# Altium schematic symbol library 11-pin_Header_Sch.SchLib: 1 symbol
Pins are listed as number, name and electrical type; pins without a type are passive.

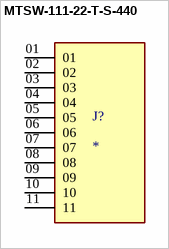
[diagram p0: symbol MTSW-111-22-T-S-440]

## MTSW-111-22-T-S-440
designator J?
MP: MTSW-111-22-T-S-440; Package: None; Price: None; Value: *; Availability: Unavailable
footprint SAMTEC_MTSW-111-22-T-S-440
pins: 01, 02, 03, 04, 05, 06, 07, 08, 09, 10, 11